# Altium footprint library ESD_Protection.PcbLib: 7 footprints
Each footprint in its own frame and in the unit in brackets; x right, y up, seen from the top. Pads: shape width x height; smd on the part's side, far side on the other; paste and mask are expansions set on the pad; w line width, h text height; cw(c..) or ccw(c..) is an arc to the next point about the centre after c.
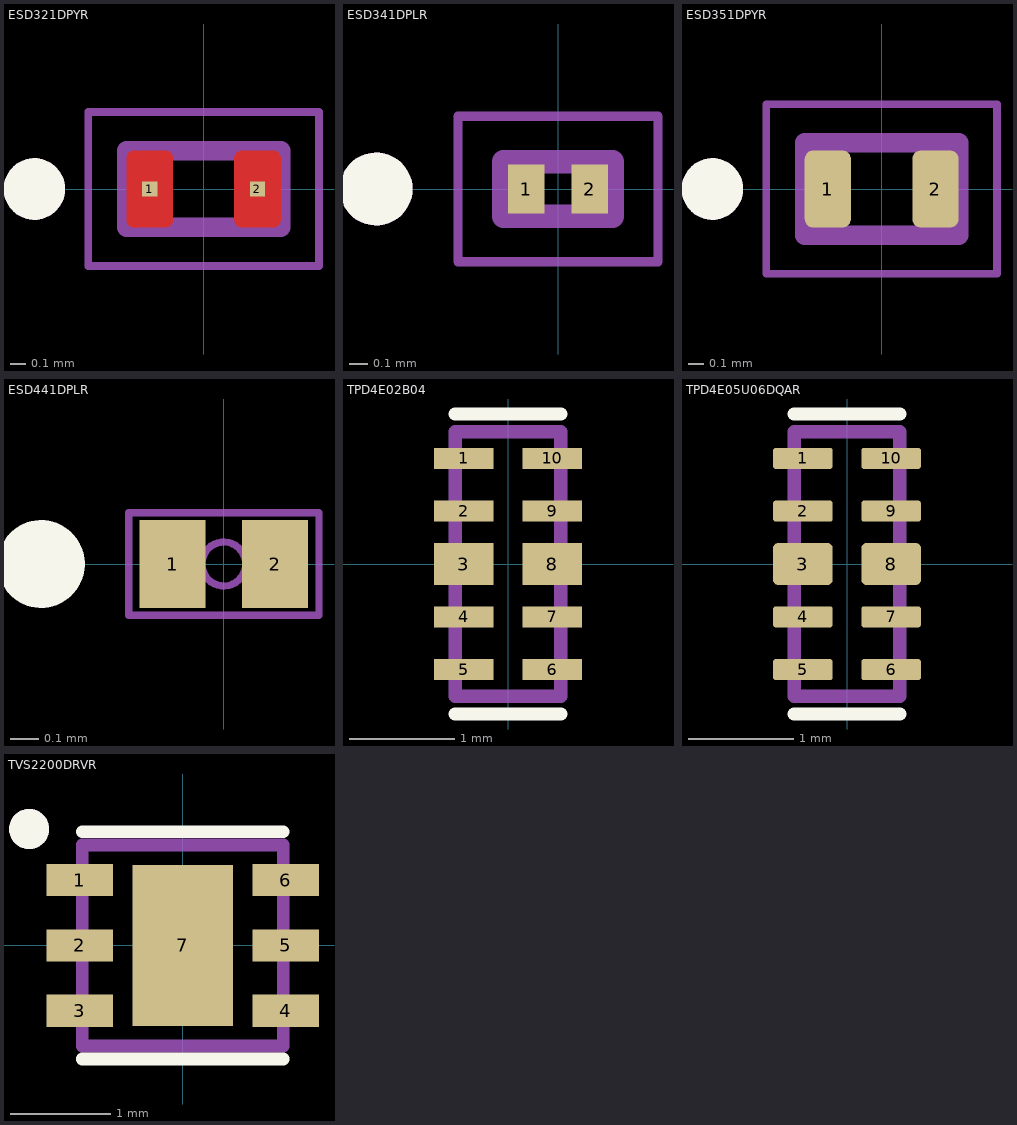
[diagram p0: the footprints below, top view; thin cyan lines are the x and y axes]

## ESD321DPYR [mm]
pads (2):
  rect 0.1x0.1 smd paste-1 mask+0: 1(-0.35,0) 2(0.35,0)
Top Layer:
  region: -0.242,0.249 -0.24,0.249 -0.237,0.248 -0.235,0.248 -0.232,0.247 -0.23,0.246 -0.227,0.245 -0.225,0.243 -0.223,0.242 -0.221,0.24 -0.219,0.239 -0.217,0.237 -0.215,0.235 -0.213,0.233 -0.211,0.231 -0.21,0.229 -0.208,0.227 -0.207,0.225 -0.205,0.223 -0.204,0.22 -0.203,0.218 -0.202,0.215 -0.202,0.213 -0.201,0.21 -0.201,0.208 -0.2,0.205 -0.2,0.203 -0.2,0.2 -0.2,-0.2 -0.2,-0.203 -0.2,-0.205 -0.201,-0.208 -0.201,-0.21 -0.202,-0.213 -0.202,-0.215 -0.203,-0.218 -0.204,-0.22 -0.205,-0.223 -0.207,-0.225 -0.208,-0.227 -0.21,-0.229 -0.211,-0.231 -0.213,-0.233 -0.215,-0.235 -0.217,-0.237 -0.219,-0.239 -0.221,-0.24 -0.223,-0.242 -0.225,-0.243 -0.227,-0.245 -0.23,-0.246 -0.232,-0.247 -0.235,-0.248 -0.237,-0.248 -0.24,-0.249 -0.242,-0.249 -0.245,-0.25 -0.455,-0.25 -0.458,-0.249 -0.46,-0.249 -0.463,-0.248 -0.465,-0.248 -0.468,-0.247 -0.47,-0.246 -0.473,-0.245 -0.475,-0.243 -0.477,-0.242 -0.479,-0.24 -0.481,-0.239 -0.483,-0.237 -0.485,-0.235 -0.487,-0.233 -0.489,-0.231 -0.49,-0.229 -0.492,-0.227 -0.493,-0.225 -0.495,-0.223 -0.496,-0.22 -0.497,-0.218 -0.498,-0.215 -0.498,-0.213 -0.499,-0.21 -0.499,-0.208 -0.5,-0.205 -0.5,-0.203 -0.5,-0.2 -0.5,0.2 -0.5,0.203 -0.5,0.205 -0.499,0.208 -0.499,0.21 -0.498,0.213 -0.498,0.215 -0.497,0.218 -0.496,0.22 -0.495,0.223 -0.493,0.225 -0.492,0.227 -0.49,0.229 -0.489,0.231 -0.487,0.233 -0.485,0.235 -0.483,0.237 -0.481,0.239 -0.479,0.24 -0.477,0.242 -0.475,0.243 -0.473,0.245 -0.47,0.246 -0.468,0.247 -0.465,0.248 -0.463,0.248 -0.46,0.249 -0.458,0.249 -0.455,0.25 -0.245,0.25
  region: 0.458,0.249 0.46,0.249 0.463,0.248 0.465,0.248 0.468,0.247 0.47,0.246 0.473,0.245 0.475,0.243 0.477,0.242 0.479,0.24 0.481,0.239 0.483,0.237 0.485,0.235 0.487,0.233 0.489,0.231 0.49,0.229 0.492,0.227 0.493,0.225 0.495,0.223 0.496,0.22 0.497,0.218 0.498,0.215 0.498,0.213 0.499,0.21 0.499,0.208 0.5,0.205 0.5,0.203 0.5,0.2 0.5,-0.2 0.5,-0.203 0.5,-0.205 0.499,-0.208 0.499,-0.21 0.498,-0.213 0.498,-0.215 0.497,-0.218 0.496,-0.22 0.495,-0.223 0.493,-0.225 0.492,-0.227 0.49,-0.229 0.489,-0.231 0.487,-0.233 0.485,-0.235 0.483,-0.237 0.481,-0.239 0.479,-0.24 0.477,-0.242 0.475,-0.243 0.473,-0.245 0.47,-0.246 0.468,-0.247 0.465,-0.248 0.463,-0.248 0.46,-0.249 0.458,-0.249 0.455,-0.25 0.245,-0.25 0.242,-0.249 0.24,-0.249 0.237,-0.248 0.235,-0.248 0.232,-0.247 0.23,-0.246 0.227,-0.245 0.225,-0.243 0.223,-0.242 0.221,-0.24 0.219,-0.239 0.217,-0.237 0.215,-0.235 0.213,-0.233 0.211,-0.231 0.21,-0.229 0.208,-0.227 0.207,-0.225 0.205,-0.223 0.204,-0.22 0.203,-0.218 0.202,-0.215 0.202,-0.213 0.201,-0.21 0.201,-0.208 0.2,-0.205 0.2,-0.203 0.2,-0.2 0.2,0.2 0.2,0.203 0.2,0.205 0.201,0.208 0.201,0.21 0.202,0.213 0.202,0.215 0.203,0.218 0.204,0.22 0.205,0.223 0.207,0.225 0.208,0.227 0.21,0.229 0.211,0.231 0.213,0.233 0.215,0.235 0.217,0.237 0.219,0.239 0.221,0.24 0.223,0.242 0.225,0.243 0.227,0.245 0.23,0.246 0.232,0.247 0.235,0.248 0.237,0.248 0.24,0.249 0.242,0.249 0.245,0.25 0.455,0.25
Top Overlay:
  circle w0.2: c-1.1,0 r0.1
Top Paste:
  drawing of 2 lines, arcs and shapes, not listed
Top Solder:
  drawing of 2 lines, arcs and shapes, not listed
Mechanical 13:
  circle w0.2: c-1.1,0 r0.1
  lines w0.127: -0.5,-0.25 -0.5,0.25 0.5,0.25 0.5,-0.25 -0.5,-0.25
Mechanical 15:
  lines w0.05: -0.75,-0.5 -0.75,0.5 0.75,0.5 0.75,-0.5 -0.75,-0.5
3D body "step_temp.STEP": height 0.45, standoff 0, extent -0.5,-0.3 0.5,0.3

## ESD341DPLR [mm] "ESD Protection Diodes / TVS Diodes 0.66-pF +/-3.6-V +/- 30-kV ESD protectio"
pads (2):
  rect 0.2x0.27 smd mask+0.05: 1(-0.175,0) 2(0.175,0)
Top Overlay:
  circle w0.2: c-1,0 r0.1
Mechanical 13:
  circle w0.2: c-1,0 r0.1
  lines w0.127: -0.3,-0.15 -0.3,0.15 0.3,0.15 0.3,-0.15 -0.3,-0.15
Mechanical 15:
  lines w0.05: -0.55,-0.4 0.55,-0.4 0.55,0.4 -0.55,0.4 -0.55,-0.4

## ESD351DPYR [mm] "ESD Protection Diodes / TVS Diodes 1.8-pF 3.3V +/-30- k V ESD protection di"
pads (2):
  rrect35% 0.3x0.5 smd mask+0: 1(-0.35,0) 2(0.35,0)
Top Overlay:
  circle w0.2: c-1.1,0 r0.1
Top Solder:
  drawing of 2 lines, arcs and shapes, not listed
Mechanical 13:
  circle w0.2: c-1.1,0 r0.1
  lines w0.127: -0.5,-0.3 0.5,-0.3 0.5,0.3 -0.5,0.3 -0.5,-0.3
Mechanical 15:
  lines w0.05: -0.75,-0.55 0.75,-0.55 0.75,0.55 -0.75,0.55 -0.75,-0.55
3D body "step_temp.STEP": height 0.45, standoff 0, extent -0.5,-0.3 0.5,0.3

## ESD441DPLR [mil] "1-pF, 5.5-V, 30-KV ESD protection device in 0201 package"
pads (2):
  rect 9x12 smd paste+0 mask+0: 1(-7,0) 2(7,0)
Top Overlay:
  circle w6: c-25,0 r3
Mechanical 13:
  circle w1: c0,0 r3
  lines w1: -13,-7 -13,7 13,7 13,-7 -13,-7
3D body "X2SON2_DPL_TEX.step": height 13.11, standoff 0, extent -12.99,-7.01 12.99,7.01

## TPD4E02B04 [mm]
pads (10):
  rect 0.565x0.2 smd mask+0: 1(-0.417,1) 2(-0.417,0.5) 4(-0.417,-0.5) 5(-0.417,-1) 6(0.417,-1) 7(0.417,-0.5) 9(0.417,0.5) 10(0.417,1)
  rect 0.565x0.4 smd paste-1 mask+0: 3(-0.417,0) 8(0.417,0)
Top Overlay:
  lines w0.127: -0.5,-1.42 0.5,-1.42 ; -0.5,1.42 0.5,1.42
Top Paste:
  region: 0.7,-0.18 0.135,-0.18 0.135,0.18 0.7,0.18
  region: -0.135,-0.18 -0.7,-0.18 -0.7,0.18 -0.135,0.18
Top Solder:
  region: 0.77,-1.17 0.065,-1.17 0.065,-0.83 0.77,-0.83
  region: 0.77,-0.67 0.065,-0.67 0.065,-0.33 0.77,-0.33
  region: 0.77,-0.27 0.065,-0.27 0.065,0.27 0.77,0.27
  region: 0.77,0.33 0.065,0.33 0.065,0.67 0.77,0.67
  region: 0.77,0.83 0.065,0.83 0.065,1.17 0.77,1.17
  region: -0.065,-1.17 -0.77,-1.17 -0.77,-0.83 -0.065,-0.83
  region: -0.065,-0.67 -0.77,-0.67 -0.77,-0.33 -0.065,-0.33
  region: -0.065,-0.27 -0.77,-0.27 -0.77,0.27 -0.065,0.27
  region: -0.065,0.33 -0.77,0.33 -0.77,0.67 -0.065,0.67
  region: -0.065,0.83 -0.77,0.83 -0.77,1.17 -0.065,1.17
Mechanical 13:
  lines w0.127: -0.5,-1.25 0.5,-1.25 0.5,1.25 -0.5,1.25 -0.5,-1.25
3D body "step_temp.STEP": height 0.55, standoff 0, extent -0.5,-1.25 0.5,1.25

## TPD4E05U06DQAR [mm] "Quad 0.5-pF, 5.5-V, ±12-kV ESD protection diode for USB, HDMI & High Speed Interfaces"
pads (10):
  rrect25% 0.565x0.2 smd mask+0: 1(-0.417,1) 2(-0.417,0.5) 4(-0.417,-0.5) 5(-0.417,-1) 6(0.417,-1) 7(0.417,-0.5) 9(0.417,0.5) 10(0.417,1)
  rrect25% 0.565x0.4 smd paste-1 mask+0: 3(-0.417,0) 8(0.417,0)
Top Overlay:
  lines w0.127: -0.5,-1.42 0.5,-1.42 ; -0.5,1.42 0.5,1.42
Top Paste:
  drawing of 2 lines, arcs and shapes, not listed
Top Solder:
  drawing of 10 lines, arcs and shapes, not listed
Mechanical 13:
  lines w0.127: -0.5,-1.25 -0.5,1.25 0.5,1.25 0.5,-1.25 -0.5,-1.25
3D body "step_temp.STEP": height 0.55, standoff 0, extent -0.5,-1.25 0.5,1.25

## TVS2200DRVR [mm]
pads (7):
  rect 0.66x0.32 smd: 1(-1.025,0.65) 2(-1.025,0) 3(-1.025,-0.65) 4(1.025,-0.65) 5(1.025,0) 6(1.025,0.65)
  rect 1x1.6 smd paste-2: 7(0,0)
Top Overlay:
  circle w0.2: c-1.529,1.158 r0.1
  lines w0.127: -1,-1.13 1,-1.13 ; -1,1.13 1,1.13
Top Paste:
  region: 0.316,-0.506 -0.316,-0.506 -0.316,0.506 0.316,0.506
Mechanical 13:
  circle w0.2: c-1.529,1.158 r0.1
  lines w0.127: -1,-1 1,-1 1,1 -1,1 -1,-1
3D body "step_temp.STEP": height 0.8, standoff 0, extent -1,-1 1,1